# Altium footprint library SOP8.PcbLib: 1 footprints
Each footprint in its own frame and in the unit in brackets; x right, y up, seen from the top. Pads: shape width x height; smd on the part's side, far side on the other; paste and mask are expansions set on the pad; w line width, h text height; cw(c..) or ccw(c..) is an arc to the next point about the centre after c.
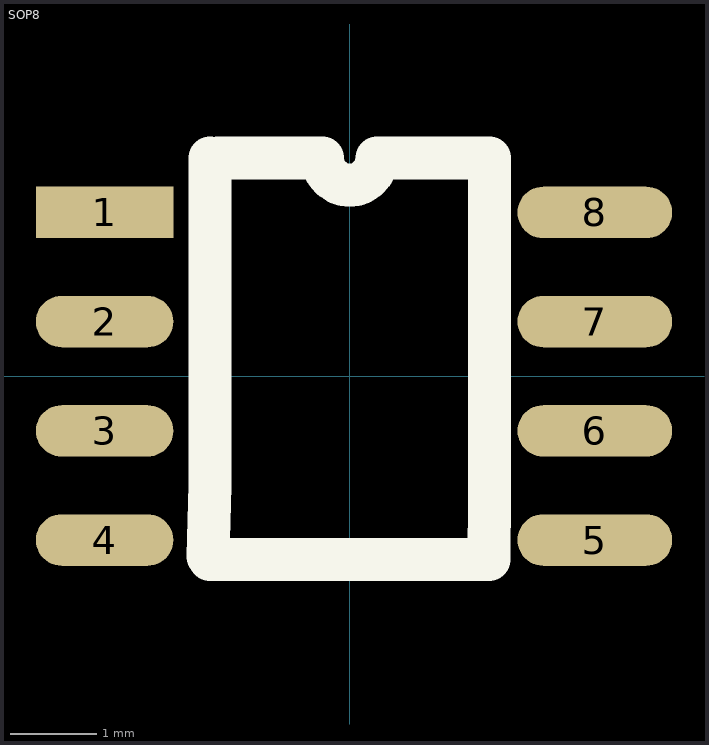
[diagram p0: the footprint, top view; thin cyan lines are the x and y axes]

## SOP8 [mm]
pads (8):
  rect 1.6x0.6 smd: 1(-2.85,1.905)
  oval 1.6x0.6 smd: 2(-2.85,0.635) 3(-2.85,-0.635) 4(-2.85,-1.905)
  oval 1.8x0.6 smd: 5(2.85,-1.905) 6(2.85,-0.635) 7(2.85,0.635) 8(2.85,1.905)
Top Overlay:
  lines w0.5: -1.65,-2.095 -1.625,-1.27 -1.625,1.27 -1.625,2.54 ; -1.625,-2.129 1.617,-2.129 1.625,-1.397 1.625,1.143 1.625,2.54 0.318,2.54 cw(c0,2.54) -0.318,2.54 -1.534,2.54
3D body "User Library-so8-3.STEP": height 1.7, standoff 0, extent -2.983,-2.496 3.017,2.404